# EAGLE library part TLK1501 (library texasinstruments-serdes)
Uses 2.5V,0.1A
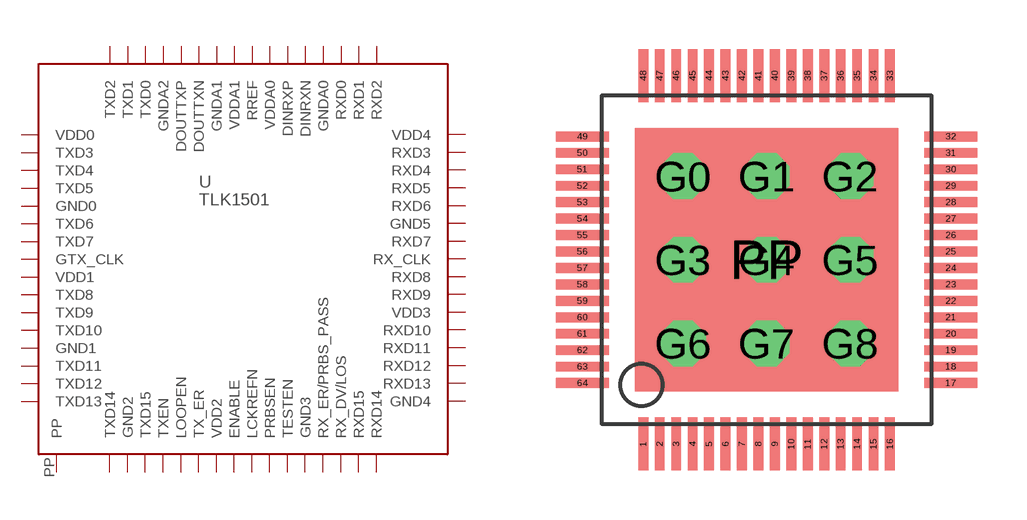
[diagram p0: symbol with the pads of R-PVQFN-G64-POWERPAD; footprint R-PVQFN-G64-POWERPAD]

Designator prefix -

## TLK1501  [R-PVQFN-G64-POWERPAD]
1  VDD0
2  TXD3
3  TXD4
4  TXD5
5  GND0
6  TXD6
7  TXD7
8  GTX_CLK
9  VDD1
10  TXD8
11  TXD9
12  TXD10
13  GND1
14  TXD11
15  TXD12
16  TXD13
17  TXD14
18  GND2
19  TXD15
20  TXEN
21  LOOPEN
22  TX_ER
23  VDD2
24  ENABLE
25  LCKREFN
26  PRBSEN
27  TESTEN
28  GND3
29  RX_ER/PRBS_PASS
30  RX_DV/LOS
31  RXD15
32  RXD14
33  GND4
34  RXD13
35  RXD12
36  RXD11
37  RXD10
38  VDD3
39  RXD9
40  RXD8
41  RX_CLK
42  RXD7
43  GND5
44  RXD6
45  RXD5
46  RXD4
47  RXD3
48  VDD4
49  RXD2
50  RXD1
51  RXD0
52  GNDA0
53  DOUTTXN
54  DOUTTXP
55  VDDA0
56  RREF
57  VDDA1
58  GNDA1
59  DINRXN
60  DINRXP
61  GNDA2
62  TXD0
63  TXD1
64  TXD2
G0  G0
G1  G1
G2  G2
G3  G3
G4  G4
G5  G5
G6  G6
G7  G7
G8  G8
PP  PP

## Footprint R-PVQFN-G64-POWERPAD (pad centres in mm)
smd 0.3 x 1.6: 1 -3.75,-5.6; 2 -3.25,-5.6; 3 -2.75,-5.6; 4 -2.25,-5.6; 5 -1.75,-5.6; 6 -1.25,-5.6; 7 -0.75,-5.6; 8 -0.25,-5.6; 9 0.25,-5.6; 10 0.75,-5.6; 11 1.25,-5.6; 12 1.75,-5.6; 13 2.25,-5.6; 14 2.75,-5.6; 15 3.25,-5.6; 16 3.75,-5.6; 33 3.75,5.6; 34 3.25,5.6; 35 2.75,5.6; 36 2.25,5.6; 37 1.75,5.6; 38 1.25,5.6; 39 0.75,5.6; 40 0.25,5.6; 41 -0.25,5.6; 42 -0.75,5.6; 43 -1.25,5.6; 44 -1.75,5.6; 45 -2.25,5.6; 46 -2.75,5.6; 47 -3.25,5.6; 48 -3.75,5.6
smd 1.6 x 0.3: 17 5.6,-3.75; 18 5.6,-3.25; 19 5.6,-2.75; 20 5.6,-2.25; 21 5.6,-1.75; 22 5.6,-1.25; 23 5.6,-0.75; 24 5.6,-0.25; 25 5.6,0.25; 26 5.6,0.75; 27 5.6,1.25; 28 5.6,1.75; 29 5.6,2.25; 30 5.6,2.75; 31 5.6,3.25; 32 5.6,3.75; 49 -5.6,3.75; 50 -5.6,3.25; 51 -5.6,2.75; 52 -5.6,2.25; 53 -5.6,1.75; 54 -5.6,1.25; 55 -5.6,0.75; 56 -5.6,0.25; 57 -5.6,-0.25; 58 -5.6,-0.75; 59 -5.6,-1.25; 60 -5.6,-1.75; 61 -5.6,-2.25; 62 -5.6,-2.75; 63 -5.6,-3.25; 64 -5.6,-3.75
drill 0.8 pad 1.397 octagon: G0 -2.54,2.54; G1 0,2.54; G2 2.54,2.54; G3 -2.54,0; G4 0,0; G5 2.54,0; G6 -2.54,-2.54; G7 0,-2.54; G8 2.54,-2.54
smd 8 x 8: PP 0,0